# Altium integrated library National Semiconductor ADC.IntLib: 538 symbols (part 18 of 19)
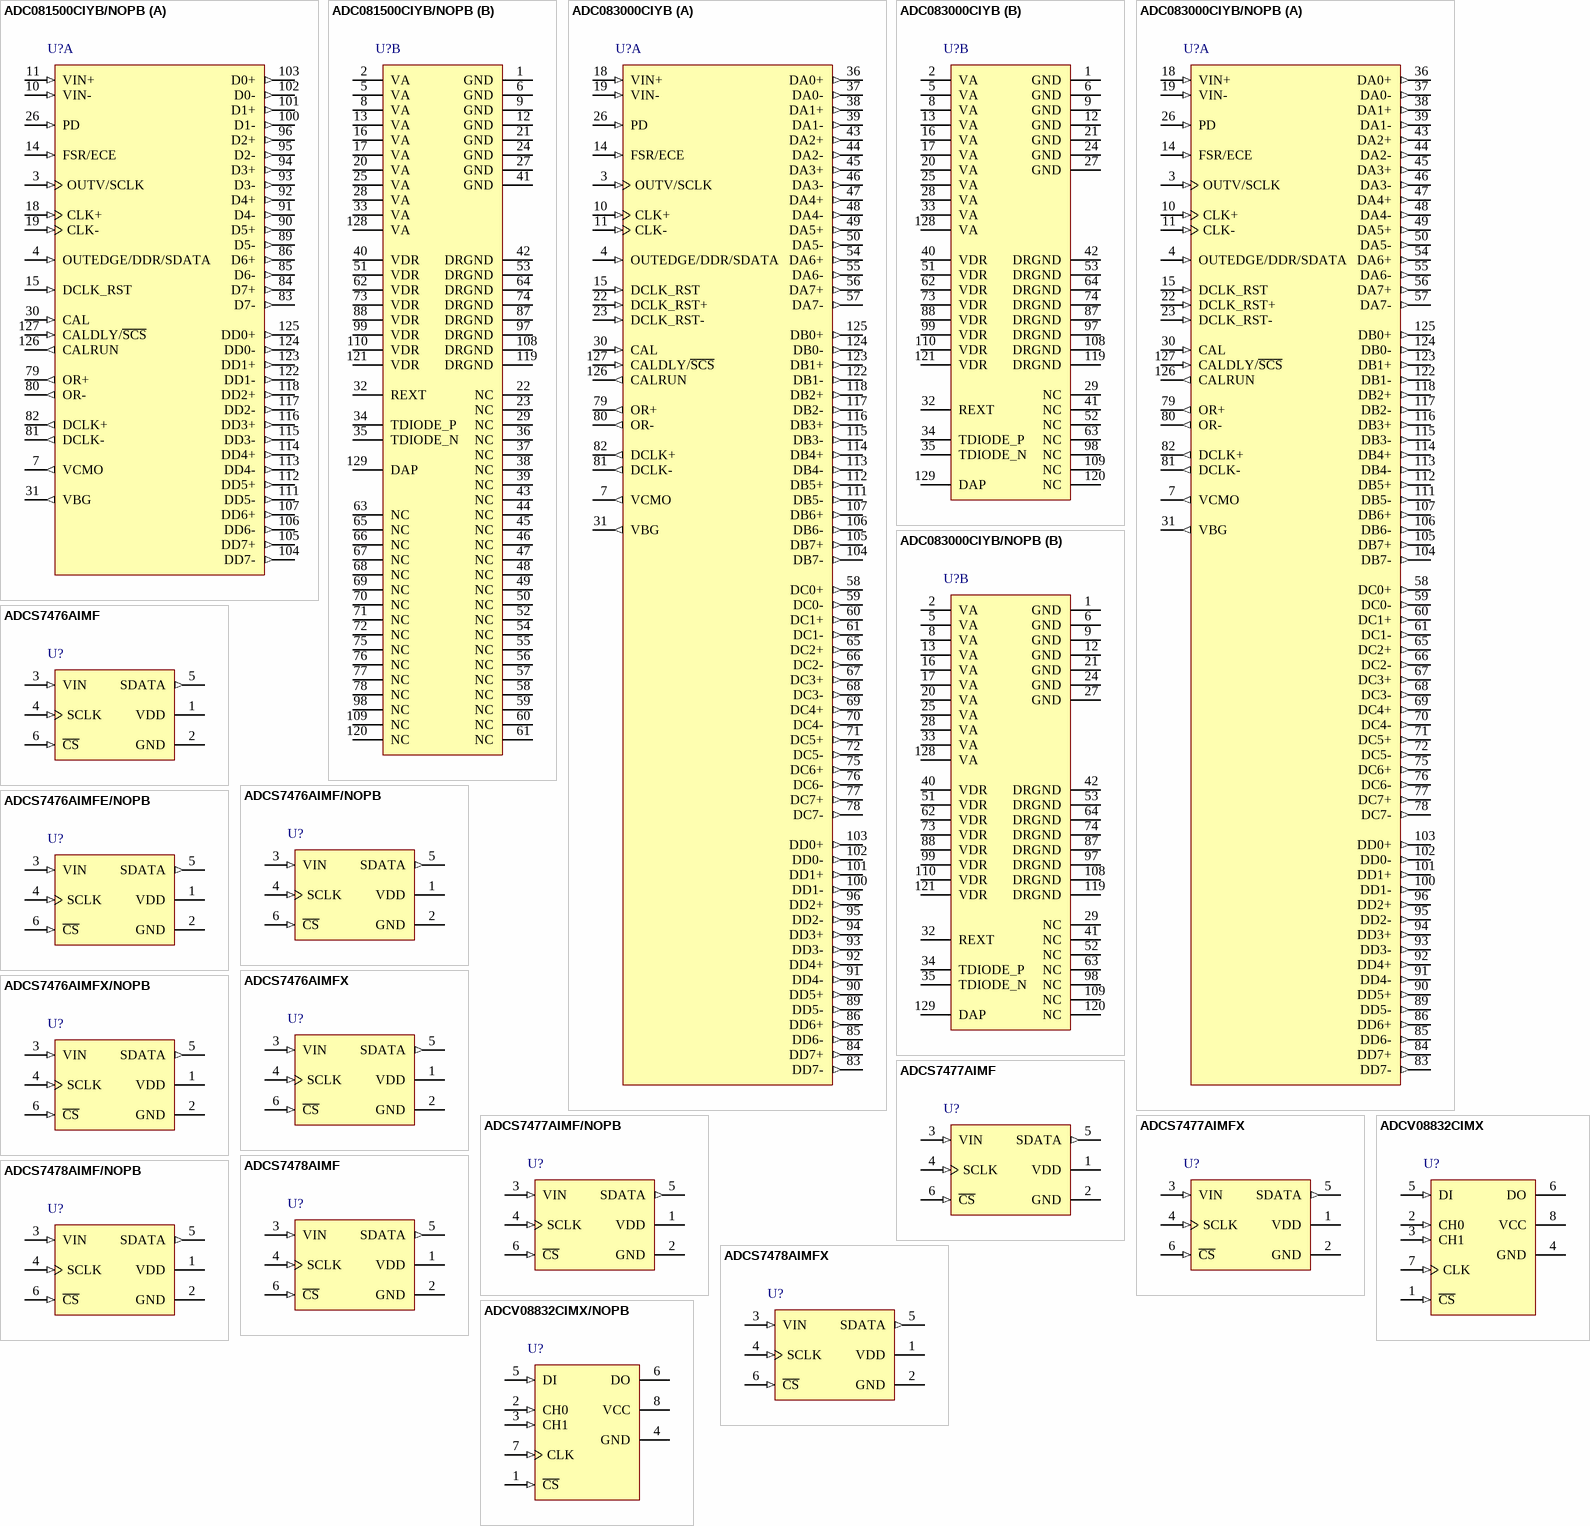
[diagram p62: symbols ADC081500CIYB/NOPB to ADCV08832CIMX/NOPB]

## ADC083000CIYB/NOPB
designator U?
8-Bit, 3 GSPS, High Performance, Low Power A/D Converter, 128-pin LQFP-EP, Pb-Free; PartNumber: ADC083000CIYB/NOPB; Manufacturer: National Semiconductor; PackageTopMarking: NSUZXYYTTE#*ADC083000CIYB; PowerWise: Y; CompType: ADC IC; DatasheetVersion: Jul-2009; PackageVersion: revB, Aug-2006; PackageReference: VNX128A; PackageDescription: LQFP, 20 x 20 x 1.4mm, 128 Lead, 0.5mm Pitch, Exposed Pad; RoHS: Y; PinCount: 128; Code_JEDEC: MS-026-BFB; ComponentLink1Description: ADC083000 Datasheet; ComponentLink1URL: http://www.national.com/ds/AD/ADC083000.pdf; ComponentLink2Description: ADC083000 Web Page; ComponentLink2URL: http://www.national.com/pf/AD/ADC083000.html; ComponentLink3Description: VNX128A Package Page; ComponentLink3URL: http://www.national.com/packaging/folders/vnx128a.html
footprint VNX128A_N (Thin QFP, 128-Leads, Body 20x20mm, Pitch 0.5mm, Exposed Pad, IPC Medium Density)
footprint VNX128A_L (Thin QFP, 128-Leads, Body 20x20mm, Pitch 0.5mm, Exposed Pad, IPC High Density)
footprint VNX128A_M (Thin QFP, 128-Leads, Body 20x20mm, Pitch 0.5mm, Exposed Pad, IPC Low Density)
part A pins: 3 OUTV/SCLK (in), 4 OUTEDGE/DDR/SDATA (in), 7 VCMO (out), 10 CLK+ (in), 11 CLK- (in), 14 FSR/ECE (in), 15 DCLK_RST (in), 18 VIN+ (in), 19 VIN- (in), 22 DCLK_RST+ (in), 23 DCLK_RST- (in), 26 PD (in), 30 CAL (in), 31 VBG (out), 36 DA0+ (out), 37 DA0- (out), 38 DA1+ (out), 39 DA1- (out), 43 DA2+ (out), 44 DA2- (out), 45 DA3+ (out), 46 DA3- (out), 47 DA4+ (out), 48 DA4- (out), 49 DA5+ (out), 50 DA5- (out), 54 DA6+ (out), 55 DA6- (out), 56 DA7+ (out), 57 DA7- (out), 58 DC0+ (out), 59 DC0- (out), 60 DC1+ (out), 61 DC1- (out), 65 DC2+ (out), 66 DC2- (out), 67 DC3+ (out), 68 DC3- (out), 69 DC4+ (out), 70 DC4- (out), 71 DC5+ (out), 72 DC5- (out), 75 DC6+ (out), 76 DC6- (out), 77 DC7+ (out), 78 DC7- (out), 79 OR+ (out), 80 OR- (out), 81 DCLK- (out), 82 DCLK+ (out), 83 DD7- (out), 84 DD7+ (out), 85 DD6- (out), 86 DD6+ (out), 89 DD5- (out), 90 DD5+ (out), 91 DD4- (out), 92 DD4+ (out), 93 DD3- (out), 94 DD3+ (out), 95 DD2- (out), 96 DD2+ (out), 100 DD1- (out), 101 DD1+ (out), 102 DD0- (out), 103 DD0+ (out), 104 DB7- (out), 105 DB7+ (out), 106 DB6- (out), 107 DB6+ (out), 111 DB5- (out), 112 DB5+ (out), 113 DB4- (out), 114 DB4+ (out), 115 DB3- (out), 116 DB3+ (out), 117 DB2- (out), 118 DB2+ (out), 122 DB1- (out), 123 DB1+ (out), 124 DB0- (out), 125 DB0+ (out), 126 CALRUN (out), 127 CALDLY/~{SCS} (in)
part B pins: 1 GND (power), 2 VA (power), 5 VA (power), 6 GND (power), 8 VA (power), 9 GND (power), 12 GND (power), 13 VA (power), 16 VA (power), 17 VA (power), 20 VA (power), 21 GND (power), 24 GND (power), 25 VA (power), 27 GND (power), 28 VA (power), 29 NC, 32 REXT, 33 VA (power), 34 TDIODE_P, 35 TDIODE_N, 40 VDR (power), 41 NC, 42 DRGND (power), 51 VDR (power), 52 NC, 53 DRGND (power), 62 VDR (power), 63 NC, 64 DRGND (power), 73 VDR (power), 74 DRGND (power), 87 DRGND (power), 88 VDR (power), 97 DRGND (power), 98 NC, 99 VDR (power), 108 DRGND (power), 109 NC, 110 VDR (power), 119 DRGND (power), 120 NC, 121 VDR (power), 128 VA (power), 129 DAP (power)

## ADCS7476AIMF
designator U?
1MSPS, 12-/10-/8-Bit A/D Converters, 6-pin SOT-23; PartNumber: ADCS7476AIMF; Manufacturer: National Semiconductor; PackageTopMarking: X01A*XTT; PowerWise: N; CompType: ADC IC; High-Reliability: Y; DatasheetVersion: Feb-2010; PackageVersion: revC, Sep-2005; PackageReference: MF06A; PackageDescription: Molded SOT-23, .115 x .063 x .040in Body, 6 Lead, .0375in in Pitch; RoHS: N; PinCount: 6; Code_JEDEC: MO-178-AB; Code_IPC: SOT26A-6; ComponentLink1Description: ADCS7476 Datasheet; ComponentLink1URL: http://www.national.com/ds/AD/ADCS7476.pdf; ComponentLink2Description: ADCS7476 Web Page; ComponentLink2URL: http://www.national.com/pf/AD/ADCS7476.html; ComponentLink3Description: MF06A Package Page; ComponentLink3URL: http://www.national.com/packaging/folders/mf06a.html
footprint MF06A_N (SOT23, 6-Leads, Body 2.9x1.6mm, Pitch 0.95mm, Lead Span 2.8mm, IPC Medium Density)
footprint MF06A_L (SOT23, 6-Leads, Body 2.9x1.6mm, Pitch 0.95mm, Lead Span 2.8mm, IPC High Density)
footprint MF06A_M (SOT23, 6-Leads, Body 2.9x1.6mm, Pitch 0.95mm, Lead Span 2.8mm, IPC Low Density)
pins: 1 VDD (power), 2 GND (power), 3 VIN (in), 4 SCLK (in), 5 SDATA (out), 6 ~{CS} (in)

## ADCS7476AIMF/NOPB
designator U?
1MSPS, 12-/10-/8-Bit A/D Converters in & LLP, 6-pin SOT-23, Pb-Free; PartNumber: ADCS7476AIMF/NOPB; Manufacturer: National Semiconductor; PackageTopMarking: X01A*XTT; PowerWise: N; CompType: ADC IC; High-Reliability: Y; DatasheetVersion: Feb-2010; PackageVersion: revC, Sep-2005; PackageReference: MF06A; PackageDescription: Molded SOT-23, .115 x .063 x .040in Body, 6 Lead, .0375in in Pitch; RoHS: Y; PinCount: 6; Code_JEDEC: MO-178-AB; Code_IPC: SOT26A-6; ComponentLink1Description: ADCS7476 Datasheet; ComponentLink1URL: http://www.national.com/ds/AD/ADCS7476.pdf; ComponentLink2Description: ADCS7476 Web Page; ComponentLink2URL: http://www.national.com/pf/AD/ADCS7476.html; ComponentLink3Description: MF06A Package Page; ComponentLink3URL: http://www.national.com/packaging/folders/mf06a.html
footprint MF06A_N (SOT23, 6-Leads, Body 2.9x1.6mm, Pitch 0.95mm, Lead Span 2.8mm, IPC Medium Density)
footprint MF06A_L (SOT23, 6-Leads, Body 2.9x1.6mm, Pitch 0.95mm, Lead Span 2.8mm, IPC High Density)
footprint MF06A_M (SOT23, 6-Leads, Body 2.9x1.6mm, Pitch 0.95mm, Lead Span 2.8mm, IPC Low Density)
pins: 1 VDD (power), 2 GND (power), 3 VIN (in), 4 SCLK (in), 5 SDATA (out), 6 ~{CS} (in)

## ADCS7476AIMFE/NOPB
designator U?
1MSPS, 12-/10-/8-Bit A/D Converters in & LLP, 6-pin SOT-23, Pb-Free; PartNumber: ADCS7476AIMFE/NOPB; Manufacturer: National Semiconductor; PackageTopMarking: X01A*XTT; PowerWise: N; CompType: ADC IC; High-Reliability: Y; DatasheetVersion: Feb-2010; PackageVersion: revC, Sep-2005; PackageReference: MF06A; PackageDescription: Molded SOT-23, .115 x .063 x .040in Body, 6 Lead, .0375in in Pitch; RoHS: Y; PinCount: 6; Code_JEDEC: MO-178-AB; Code_IPC: SOT26A-6; ComponentLink1Description: ADCS7476 Datasheet; ComponentLink1URL: http://www.national.com/ds/AD/ADCS7476.pdf; ComponentLink2Description: ADCS7476 Web Page; ComponentLink2URL: http://www.national.com/pf/AD/ADCS7476.html; ComponentLink3Description: MF06A Package Page; ComponentLink3URL: http://www.national.com/packaging/folders/mf06a.html
footprint MF06A_N (SOT23, 6-Leads, Body 2.9x1.6mm, Pitch 0.95mm, Lead Span 2.8mm, IPC Medium Density)
footprint MF06A_L (SOT23, 6-Leads, Body 2.9x1.6mm, Pitch 0.95mm, Lead Span 2.8mm, IPC High Density)
footprint MF06A_M (SOT23, 6-Leads, Body 2.9x1.6mm, Pitch 0.95mm, Lead Span 2.8mm, IPC Low Density)
pins: 1 VDD (power), 2 GND (power), 3 VIN (in), 4 SCLK (in), 5 SDATA (out), 6 ~{CS} (in)

## ADCS7476AIMFX
designator U?
1MSPS, 12-/10-/8-Bit A/D Converters in & LLP, 6-pin SOT-23; PartNumber: ADCS7476AIMFX; Manufacturer: National Semiconductor; PackageTopMarking: X01A*XTT; PowerWise: N; CompType: ADC IC; High-Reliability: Y; DatasheetVersion: Feb-2010; PackageVersion: revC, Sep-2005; PackageReference: MF06A; PackageDescription: Molded SOT-23, .115 x .063 x .040in Body, 6 Lead, .0375in in Pitch; RoHS: N; PinCount: 6; Code_JEDEC: MO-178-AB; Code_IPC: SOT26A-6; ComponentLink1Description: ADCS7476 Datasheet; ComponentLink1URL: http://www.national.com/ds/AD/ADCS7476.pdf; ComponentLink2Description: ADCS7476 Web Page; ComponentLink2URL: http://www.national.com/pf/AD/ADCS7476.html; ComponentLink3Description: MF06A Package Page; ComponentLink3URL: http://www.national.com/packaging/folders/mf06a.html
footprint MF06A_N (SOT23, 6-Leads, Body 2.9x1.6mm, Pitch 0.95mm, Lead Span 2.8mm, IPC Medium Density)
footprint MF06A_L (SOT23, 6-Leads, Body 2.9x1.6mm, Pitch 0.95mm, Lead Span 2.8mm, IPC High Density)
footprint MF06A_M (SOT23, 6-Leads, Body 2.9x1.6mm, Pitch 0.95mm, Lead Span 2.8mm, IPC Low Density)
pins: 1 VDD (power), 2 GND (power), 3 VIN (in), 4 SCLK (in), 5 SDATA (out), 6 ~{CS} (in)

## ADCS7476AIMFX/NOPB
designator U?
1MSPS, 12-/10-/8-Bit A/D Converters in & LLP, 6-pin SOT-23, Pb-Free; PartNumber: ADCS7476AIMFX/NOPB; Manufacturer: National Semiconductor; PackageTopMarking: X01A*XTT; PowerWise: N; CompType: ADC IC; High-Reliability: Y; DatasheetVersion: Feb-2010; PackageVersion: revC, Sep-2005; PackageReference: MF06A; PackageDescription: Molded SOT-23, .115 x .063 x .040in Body, 6 Lead, .0375in in Pitch; RoHS: Y; PinCount: 6; Code_JEDEC: MO-178-AB; Code_IPC: SOT26A-6; ComponentLink1Description: ADCS7476 Datasheet; ComponentLink1URL: http://www.national.com/ds/AD/ADCS7476.pdf; ComponentLink2Description: ADCS7476 Web Page; ComponentLink2URL: http://www.national.com/pf/AD/ADCS7476.html; ComponentLink3Description: MF06A Package Page; ComponentLink3URL: http://www.national.com/packaging/folders/mf06a.html
footprint MF06A_N (SOT23, 6-Leads, Body 2.9x1.6mm, Pitch 0.95mm, Lead Span 2.8mm, IPC Medium Density)
footprint MF06A_L (SOT23, 6-Leads, Body 2.9x1.6mm, Pitch 0.95mm, Lead Span 2.8mm, IPC High Density)
footprint MF06A_M (SOT23, 6-Leads, Body 2.9x1.6mm, Pitch 0.95mm, Lead Span 2.8mm, IPC Low Density)
pins: 1 VDD (power), 2 GND (power), 3 VIN (in), 4 SCLK (in), 5 SDATA (out), 6 ~{CS} (in)

## ADCS7477AIMF
designator U?
1MSPS, 12-/10-/8-Bit A/D Converters, 6-pin SOT-23; PartNumber: ADCS7477AIMF; Manufacturer: National Semiconductor; PackageTopMarking: X02A*XTT; PowerWise: N; CompType: ADC IC; High-Reliability: Y; DatasheetVersion: May-2003; PackageVersion: revC, Sep-2005; PackageReference: MF06A; PackageDescription: Molded SOT-23, .115 x .063 x .040in Body, 6 Lead, .0375in in Pitch; RoHS: N; PinCount: 6; Code_JEDEC: MO-178-AB; Code_IPC: SOT26A-6; ComponentLink1Description: ADCS7477 Datasheet; ComponentLink1URL: http://www.national.com/ds/AD/ADCS7477.pdf; ComponentLink2Description: ADCS7477 Web Page; ComponentLink2URL: http://www.national.com/pf/AD/ADCS7477.html; ComponentLink3Description: MF06A Package Page; ComponentLink3URL: http://www.national.com/packaging/folders/mf06a.html
footprint MF06A_N (SOT23, 6-Leads, Body 2.9x1.6mm, Pitch 0.95mm, Lead Span 2.8mm, IPC Medium Density)
footprint MF06A_L (SOT23, 6-Leads, Body 2.9x1.6mm, Pitch 0.95mm, Lead Span 2.8mm, IPC High Density)
footprint MF06A_M (SOT23, 6-Leads, Body 2.9x1.6mm, Pitch 0.95mm, Lead Span 2.8mm, IPC Low Density)
pins: 1 VDD (power), 2 GND (power), 3 VIN (in), 4 SCLK (in), 5 SDATA (out), 6 ~{CS} (in)

## ADCS7477AIMF/NOPB
designator U?
1MSPS, 12-/10-/8-Bit A/D Converters in & LLP, 6-pin SOT-23, Pb-Free; PartNumber: ADCS7477AIMF/NOPB; Manufacturer: National Semiconductor; PackageTopMarking: X02A*XTT; PowerWise: N; CompType: ADC IC; High-Reliability: Y; DatasheetVersion: May-2003; PackageVersion: revC, Sep-2005; PackageReference: MF06A; PackageDescription: Molded SOT-23, .115 x .063 x .040in Body, 6 Lead, .0375in in Pitch; RoHS: Y; PinCount: 6; Code_JEDEC: MO-178-AB; Code_IPC: SOT26A-6; ComponentLink1Description: ADCS7477 Datasheet; ComponentLink1URL: http://www.national.com/ds/AD/ADCS7477.pdf; ComponentLink2Description: ADCS7477 Web Page; ComponentLink2URL: http://www.national.com/pf/AD/ADCS7477.html; ComponentLink3Description: MF06A Package Page; ComponentLink3URL: http://www.national.com/packaging/folders/mf06a.html
footprint MF06A_N (SOT23, 6-Leads, Body 2.9x1.6mm, Pitch 0.95mm, Lead Span 2.8mm, IPC Medium Density)
footprint MF06A_L (SOT23, 6-Leads, Body 2.9x1.6mm, Pitch 0.95mm, Lead Span 2.8mm, IPC High Density)
footprint MF06A_M (SOT23, 6-Leads, Body 2.9x1.6mm, Pitch 0.95mm, Lead Span 2.8mm, IPC Low Density)
pins: 1 VDD (power), 2 GND (power), 3 VIN (in), 4 SCLK (in), 5 SDATA (out), 6 ~{CS} (in)

## ADCS7477AIMFX
designator U?
1MSPS, 12-/10-/8-Bit A/D Converters in & LLP, 6-pin SOT-23; PartNumber: ADCS7477AIMFX; Manufacturer: National Semiconductor; PackageTopMarking: X02A*XTT; PowerWise: N; CompType: ADC IC; High-Reliability: Y; DatasheetVersion: May-2003; PackageVersion: revC, Sep-2005; PackageReference: MF06A; PackageDescription: Molded SOT-23, .115 x .063 x .040in Body, 6 Lead, .0375in in Pitch; RoHS: N; PinCount: 6; Code_JEDEC: MO-178-AB; Code_IPC: SOT26A-6; ComponentLink1Description: ADCS7477 Datasheet; ComponentLink1URL: http://www.national.com/ds/AD/ADCS7477.pdf; ComponentLink2Description: ADCS7477 Web Page; ComponentLink2URL: http://www.national.com/pf/AD/ADCS7477.html; ComponentLink3Description: MF06A Package Page; ComponentLink3URL: http://www.national.com/packaging/folders/mf06a.html
footprint MF06A_N (SOT23, 6-Leads, Body 2.9x1.6mm, Pitch 0.95mm, Lead Span 2.8mm, IPC Medium Density)
footprint MF06A_L (SOT23, 6-Leads, Body 2.9x1.6mm, Pitch 0.95mm, Lead Span 2.8mm, IPC High Density)
footprint MF06A_M (SOT23, 6-Leads, Body 2.9x1.6mm, Pitch 0.95mm, Lead Span 2.8mm, IPC Low Density)
pins: 1 VDD (power), 2 GND (power), 3 VIN (in), 4 SCLK (in), 5 SDATA (out), 6 ~{CS} (in)

## ADCS7478AIMF
designator U?
1MSPS, 12-/10-/8-Bit A/D Converters, 6-pin SOT-23; PartNumber: ADCS7478AIMF; Manufacturer: National Semiconductor; PackageTopMarking: X03A*XTT; PowerWise: N; CompType: ADC IC; High-Reliability: Y; DatasheetVersion: May-2003; PackageVersion: revC, Sep-2005; PackageReference: MF06A; PackageDescription: Molded SOT-23, .115 x .063 x .040in Body, 6 Lead, .0375in in Pitch; RoHS: N; PinCount: 6; Code_JEDEC: MO-178-AB; Code_IPC: SOT26A-6; ComponentLink1Description: ADCS7478 Datasheet; ComponentLink1URL: http://www.national.com/ds/AD/ADCS7478.pdf; ComponentLink2Description: ADCS7478 Web Page; ComponentLink2URL: http://www.national.com/pf/AD/ADCS7478.html; ComponentLink3Description: MF06A Package Page; ComponentLink3URL: http://www.national.com/packaging/folders/mf06a.html
footprint MF06A_N (SOT23, 6-Leads, Body 2.9x1.6mm, Pitch 0.95mm, Lead Span 2.8mm, IPC Medium Density)
footprint MF06A_L (SOT23, 6-Leads, Body 2.9x1.6mm, Pitch 0.95mm, Lead Span 2.8mm, IPC High Density)
footprint MF06A_M (SOT23, 6-Leads, Body 2.9x1.6mm, Pitch 0.95mm, Lead Span 2.8mm, IPC Low Density)
pins: 1 VDD (power), 2 GND (power), 3 VIN (in), 4 SCLK (in), 5 SDATA (out), 6 ~{CS} (in)

## ADCS7478AIMF/NOPB
designator U?
1MSPS, 12-/10-/8-Bit A/D Converters in & LLP, 6-pin SOT-23, Pb-Free; PartNumber: ADCS7478AIMF/NOPB; Manufacturer: National Semiconductor; PackageTopMarking: X03A*XTT; PowerWise: N; CompType: ADC IC; High-Reliability: Y; DatasheetVersion: May-2003; PackageVersion: revC, Sep-2005; PackageReference: MF06A; PackageDescription: Molded SOT-23, .115 x .063 x .040in Body, 6 Lead, .0375in in Pitch; RoHS: Y; PinCount: 6; Code_JEDEC: MO-178-AB; Code_IPC: SOT26A-6; ComponentLink1Description: ADCS7478 Datasheet; ComponentLink1URL: http://www.national.com/ds/AD/ADCS7478.pdf; ComponentLink2Description: ADCS7478 Web Page; ComponentLink2URL: http://www.national.com/pf/AD/ADCS7478.html; ComponentLink3Description: MF06A Package Page; ComponentLink3URL: http://www.national.com/packaging/folders/mf06a.html
footprint MF06A_N (SOT23, 6-Leads, Body 2.9x1.6mm, Pitch 0.95mm, Lead Span 2.8mm, IPC Medium Density)
footprint MF06A_L (SOT23, 6-Leads, Body 2.9x1.6mm, Pitch 0.95mm, Lead Span 2.8mm, IPC High Density)
footprint MF06A_M (SOT23, 6-Leads, Body 2.9x1.6mm, Pitch 0.95mm, Lead Span 2.8mm, IPC Low Density)
pins: 1 VDD (power), 2 GND (power), 3 VIN (in), 4 SCLK (in), 5 SDATA (out), 6 ~{CS} (in)

## ADCS7478AIMFX
designator U?
1MSPS, 12-/10-/8-Bit A/D Converters in & LLP, 6-pin SOT-23; PartNumber: ADCS7478AIMFX; Manufacturer: National Semiconductor; PackageTopMarking: X03A*XTT; PowerWise: N; CompType: ADC IC; High-Reliability: Y; DatasheetVersion: May-2003; PackageVersion: revC, Sep-2005; PackageReference: MF06A; PackageDescription: Molded SOT-23, .115 x .063 x .040in Body, 6 Lead, .0375in in Pitch; RoHS: N; PinCount: 6; Code_JEDEC: MO-178-AB; Code_IPC: SOT26A-6; ComponentLink1Description: ADCS7478 Datasheet; ComponentLink1URL: http://www.national.com/ds/AD/ADCS7478.pdf; ComponentLink2Description: ADCS7478 Web Page; ComponentLink2URL: http://www.national.com/pf/AD/ADCS7478.html; ComponentLink3Description: MF06A Package Page; ComponentLink3URL: http://www.national.com/packaging/folders/mf06a.html
footprint MF06A_N (SOT23, 6-Leads, Body 2.9x1.6mm, Pitch 0.95mm, Lead Span 2.8mm, IPC Medium Density)
footprint MF06A_L (SOT23, 6-Leads, Body 2.9x1.6mm, Pitch 0.95mm, Lead Span 2.8mm, IPC High Density)
footprint MF06A_M (SOT23, 6-Leads, Body 2.9x1.6mm, Pitch 0.95mm, Lead Span 2.8mm, IPC Low Density)
pins: 1 VDD (power), 2 GND (power), 3 VIN (in), 4 SCLK (in), 5 SDATA (out), 6 ~{CS} (in)

## ADCV08832CIMX
designator U?
Low Voltage, 8-Bit Serial I/O CMOS A/D Converter With Sample/Hold, 8-pin Narrow SOIC; PartNumber: ADCV08832CIMX; Manufacturer: National Semiconductor; PackageTopMarking: NSZXTT*ADCV0*8832I; PowerWise: N; CompType: ADC IC; High-Reliability: Y; DatasheetVersion: Jan-2001; PackageVersion: revM, May-2009; PackageReference: M08A; PackageDescription: SOIC Narrow, 4.9 x 3.9 x 1.45mm, 8 Lead, 1.27mm Pitch; RoHS: N; PinCount: 8; Code_JEDEC: MS-012-AA; Code_IPC: SOIC127P600-8; ComponentLink1Description: ADCV08832 Datasheet; ComponentLink1URL: http://www.national.com/ds/AD/ADCV08832.pdf; ComponentLink2Description: ADCV08832 Web Page; ComponentLink2URL: http://www.national.com/pf/AD/ADCV08832.html; ComponentLink3Description: M08A Package Page; ComponentLink3URL: http://www.national.com/packaging/folders/m08a.html
footprint M08A_N (SOIC, 8-Leads, Body 4.9x3.9mm, Pitch 1.27mm, IPC Medium Density)
footprint M08A_L (SOIC, 8-Leads, Body 4.9x3.9mm, Pitch 1.27mm, IPC High Density)
footprint M08A_M (SOIC, 8-Leads, Body 4.9x3.9mm, Pitch 1.27mm, IPC Low Density)
pins: 1 ~{CS} (in), 2 CH0 (in), 3 CH1 (in), 4 GND (power), 5 DI (in), 6 DO (hiz), 7 CLK (in), 8 VCC (power)

## ADCV08832CIMX/NOPB
designator U?
Low Voltage, 8-Bit Serial I/O CMOS A/D Converter With Sample/Hold, 8-pin Narrow SOIC, Pb-Free; PartNumber: ADCV08832CIMX/NOPB; Manufacturer: National Semiconductor; PackageTopMarking: NSZXTT*ADCV0*8832I; PowerWise: N; CompType: ADC IC; High-Reliability: Y; DatasheetVersion: Jan-2001; PackageVersion: revM, May-2009; PackageReference: M08A; PackageDescription: SOIC Narrow, 4.9 x 3.9 x 1.45mm, 8 Lead, 1.27mm Pitch; RoHS: Y; PinCount: 8; Code_JEDEC: MS-012-AA; Code_IPC: SOIC127P600-8; ComponentLink1Description: ADCV08832 Datasheet; ComponentLink1URL: http://www.national.com/ds/AD/ADCV08832.pdf; ComponentLink2Description: ADCV08832 Web Page; ComponentLink2URL: http://www.national.com/pf/AD/ADCV08832.html; ComponentLink3Description: M08A Package Page; ComponentLink3URL: http://www.national.com/packaging/folders/m08a.html
footprint M08A_N (SOIC, 8-Leads, Body 4.9x3.9mm, Pitch 1.27mm, IPC Medium Density)
footprint M08A_L (SOIC, 8-Leads, Body 4.9x3.9mm, Pitch 1.27mm, IPC High Density)
footprint M08A_M (SOIC, 8-Leads, Body 4.9x3.9mm, Pitch 1.27mm, IPC Low Density)
pins: 1 ~{CS} (in), 2 CH0 (in), 3 CH1 (in), 4 GND (power), 5 DI (in), 6 DO (hiz), 7 CLK (in), 8 VCC (power)

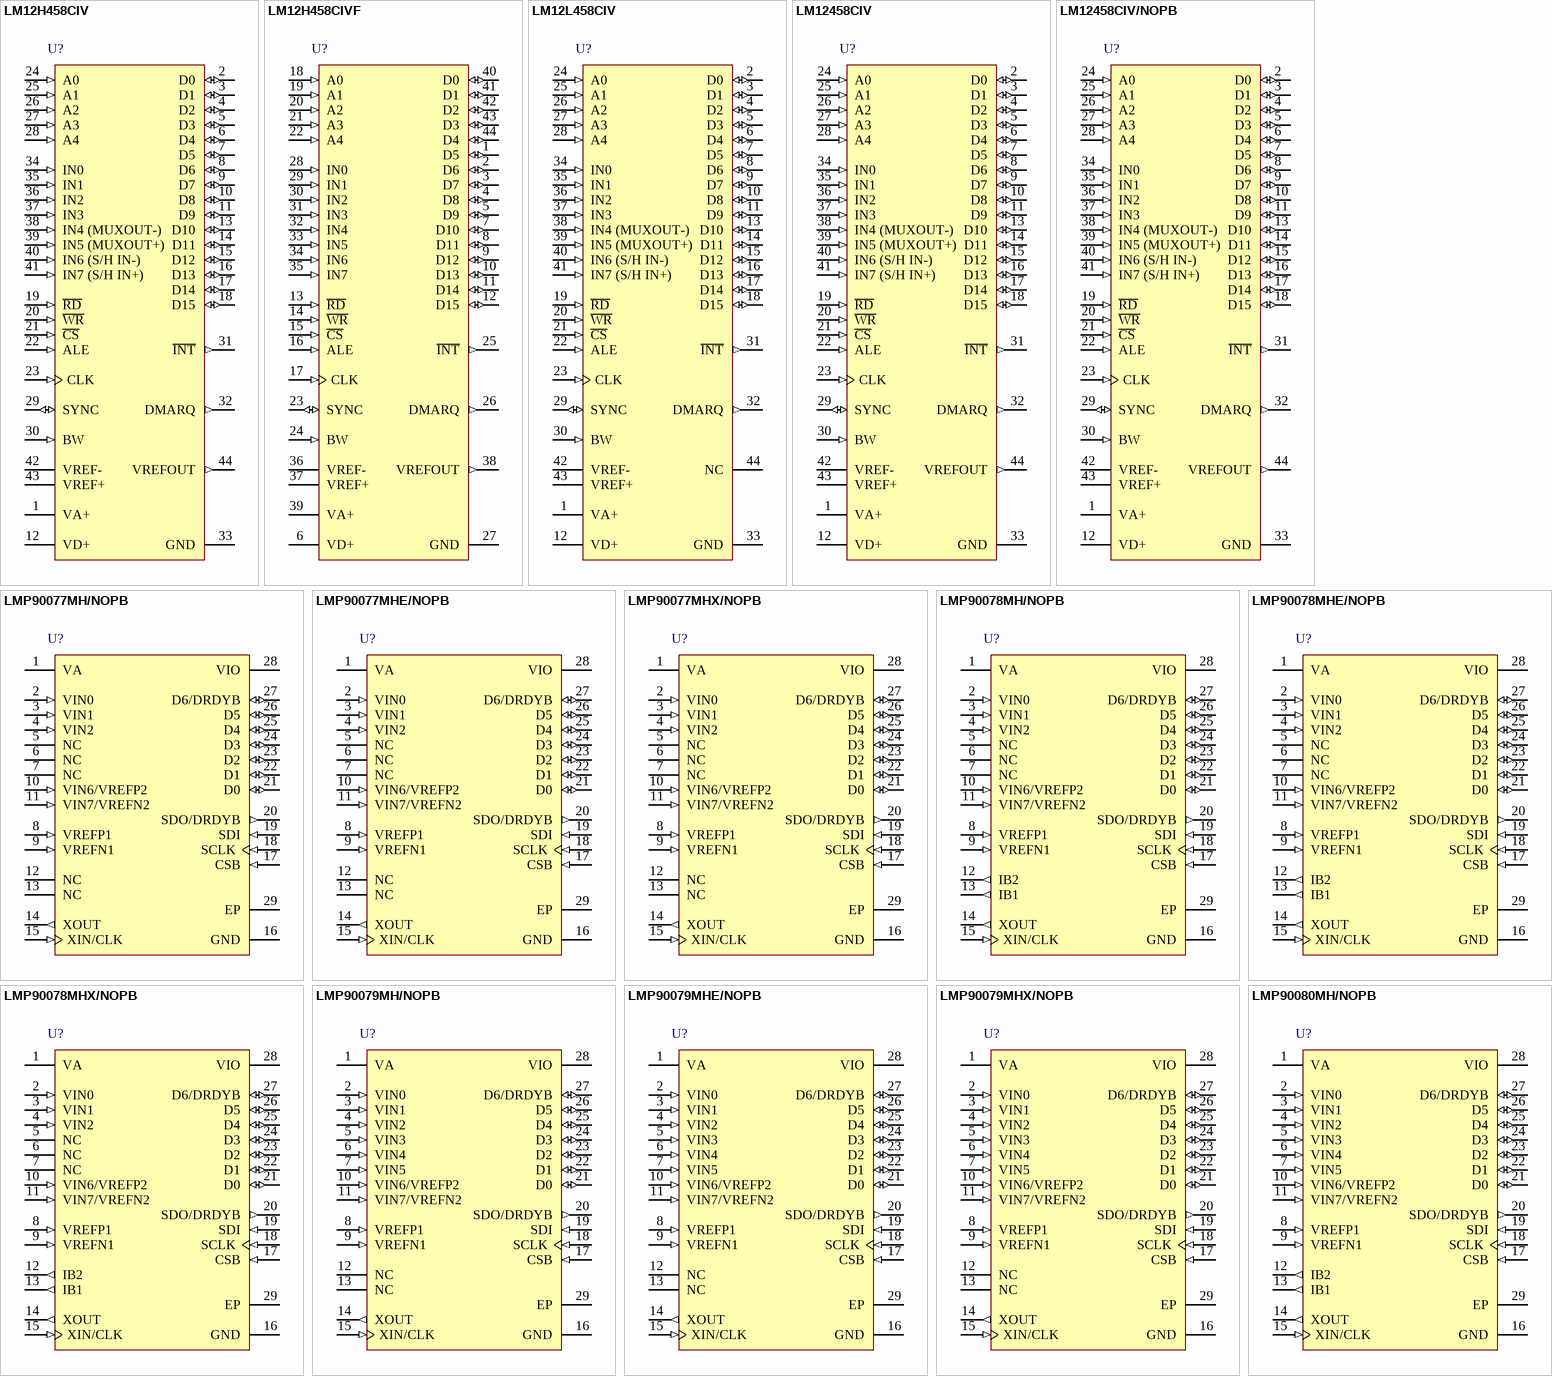
[diagram p44: symbols LM12H458CIV to LMP90080MH/NOPB]

## LM12H458CIV
designator U?
12-Bit Plus Sign Data Acquisition System with Self-Calibration, 44-pin PLCC; PartNumber: LM12H458CIV; Manufacturer: National Semiconductor; PackageTopMarking: NSUZXYYTTE#*LM12H458CIV; PowerWise: N; CompType: ADC IC; High-Reliability: Y; DatasheetVersion: Feb-2006; PackageVersion: revK, Dec-1993; PackageReference: V44A; PackageDescription: Plastic Chip Carrier, Sq, .050in Pitch, 44 Lead; RoHS: N; PinCount: 44; Code_IPC: PLCC-44; ComponentLink1Description: LM12H458 Datasheet; ComponentLink1URL: http://www.national.com/ds/LM/LM12H458.pdf; ComponentLink2Description: LM12H458 Web Page; ComponentLink2URL: http://www.national.com/pf/LM/LM12H458.html; ComponentLink3Description: V44A Package Page; ComponentLink3URL: http://www.national.com/packaging/folders/v44a.html
footprint V44A_N (Leaded Chip Carrier, 44-Leads, Body 16.6x16.6mm, Pitch 1.27mm, IPC Medium Density)
footprint V44A_L (Leaded Chip Carrier, 44-Leads, Body 16.6x16.6mm, Pitch 1.27mm, IPC High Density)
footprint V44A_M (Leaded Chip Carrier, 44-Leads, Body 16.6x16.6mm, Pitch 1.27mm, IPC Low Density)
pins: 1 VA+ (power), 2 D0 (io), 3 D1 (io), 4 D2 (io), 5 D3 (io), 6 D4 (io), 7 D5 (io), 8 D6 (io), 9 D7 (io), 10 D8 (io), 11 D9 (io), 12 VD+ (power), 13 D10 (io), 14 D11 (io), 15 D12 (io), 16 D13 (io), 17 D14 (io), 18 D15 (io), 19 ~{RD} (in), 20 ~{WR} (in), 21 ~{CS} (in), 22 ALE (in), 23 CLK (in), 24 A0 (in), 25 A1 (in), 26 A2 (in), 27 A3 (in), 28 A4 (in), 29 SYNC (io), 30 BW (in), 31 ~{INT} (out), 32 DMARQ (out), 33 GND (power), 34 IN0 (in), 35 IN1 (in), 36 IN2 (in), 37 IN3 (in), 38 IN4 (MUXOUT-) (in), 39 IN5 (MUXOUT+) (in), 40 IN6 (S/H IN-) (in), 41 IN7 (S/H IN+) (in), 42 VREF- (power), 43 VREF+ (power), 44 VREFOUT (out)

## LM12H458CIVF
designator U?
12-Bit Plus Sign Data Acquisition System with Self-Calibration, 44-pin PQFP; PartNumber: LM12H458CIVF; Manufacturer: National Semiconductor; PackageTopMarking: NSUZXYYTTE#*LM12H458*CIVF*DIE RUN# =; PowerWise: N; CompType: ADC IC; High-Reliability: Y; DatasheetVersion: Feb-2006; PackageVersion: revE, Feb-2003; PackageReference: VGZ44A; PackageDescription: PQFP, Jedec Metric, (S), 10 x 10 x 2.0mm Body, 44 Lead; RoHS: N; PinCount: 44; Code_JEDEC: MO-108-AA-1; Code_IPC: QFP80P1320X1320-44; ComponentLink1Description: LM12H458 Datasheet; ComponentLink1URL: http://www.national.com/ds/LM/LM12H458.pdf; ComponentLink2Description: LM12H458 Web Page; ComponentLink2URL: http://www.national.com/pf/LM/LM12H458.html; ComponentLink3Description: VGZ44A Package Page; ComponentLink3URL: http://www.national.com/packaging/folders/vgz44a.html
footprint VGZ44A_N (QFP, 44-Leads, Body 10x10mm, Pitch 0.8mm, IPC Medium Density)
footprint VGZ44A_L (QFP, 44-Leads, Body 10x10mm, Pitch 0.8mm, IPC High Density)
footprint VGZ44A_M (QFP, 44-Leads, Body 10x10mm, Pitch 0.8mm, IPC Low Density)
pins: 1 D5 (io), 2 D6 (io), 3 D7 (io), 4 D8 (io), 5 D9 (io), 6 VD+ (power), 7 D10 (io), 8 D11 (io), 9 D12 (io), 10 D13 (io), 11 D14 (io), 12 D15 (io), 13 ~{RD} (in), 14 ~{WR} (in), 15 ~{CS} (in), 16 ALE (in), 17 CLK (in), 18 A0 (in), 19 A1 (in), 20 A2 (in), 21 A3 (in), 22 A4 (in), 23 SYNC (io), 24 BW (in), 25 ~{INT} (out), 26 DMARQ (out), 27 GND (power), 28 IN0 (in), 29 IN1 (in), 30 IN2 (in), 31 IN3 (in), 32 IN4 (in), 33 IN5 (in), 34 IN6 (in), 35 IN7 (in), 36 VREF- (power), 37 VREF+ (power), 38 VREFOUT (out), 39 VA+ (power), 40 D0 (io), 41 D1 (io), 42 D2 (io), 43 D3 (io), 44 D4 (io)

## LM12L458CIV
designator U?
12-Bit Plus Sign Data Acquisition System with Self-Calibration, 44-pin PLCC; PartNumber: LM12L458CIV; Manufacturer: National Semiconductor; PackageTopMarking: NSUZXYYTTE#*LM12L458CIV; PowerWise: N; CompType: ADC IC; High-Reliability: Y; DatasheetVersion: Feb-2006; PackageVersion: revK, Dec-1993; PackageReference: V44A; PackageDescription: Plastic Chip Carrier, Sq, .050in Pitch, 44 Lead; RoHS: N; PinCount: 44; Code_IPC: PLCC-44; ComponentLink1Description: LM12L458 Datasheet; ComponentLink1URL: http://www.national.com/ds/LM/LM12L458.pdf; ComponentLink2Description: LM12L458 Web Page; ComponentLink2URL: http://www.national.com/pf/LM/LM12L458.html; ComponentLink3Description: V44A Package Page; ComponentLink3URL: http://www.national.com/packaging/folders/v44a.html
footprint V44A_N (Leaded Chip Carrier, 44-Leads, Body 16.6x16.6mm, Pitch 1.27mm, IPC Medium Density)
footprint V44A_L (Leaded Chip Carrier, 44-Leads, Body 16.6x16.6mm, Pitch 1.27mm, IPC High Density)
footprint V44A_M (Leaded Chip Carrier, 44-Leads, Body 16.6x16.6mm, Pitch 1.27mm, IPC Low Density)
pins: 1 VA+ (power), 2 D0 (io), 3 D1 (io), 4 D2 (io), 5 D3 (io), 6 D4 (io), 7 D5 (io), 8 D6 (io), 9 D7 (io), 10 D8 (io), 11 D9 (io), 12 VD+ (power), 13 D10 (io), 14 D11 (io), 15 D12 (io), 16 D13 (io), 17 D14 (io), 18 D15 (io), 19 ~{RD} (in), 20 ~{WR} (in), 21 ~{CS} (in), 22 ALE (in), 23 CLK (in), 24 A0 (in), 25 A1 (in), 26 A2 (in), 27 A3 (in), 28 A4 (in), 29 SYNC (io), 30 BW (in), 31 ~{INT} (out), 32 DMARQ (out), 33 GND (power), 34 IN0 (in), 35 IN1 (in), 36 IN2 (in), 37 IN3 (in), 38 IN4 (MUXOUT-) (in), 39 IN5 (MUXOUT+) (in), 40 IN6 (S/H IN-) (in), 41 IN7 (S/H IN+) (in), 42 VREF- (power), 43 VREF+ (power), 44 NC

## LM12458CIV
designator U?
12-Bit Plus Sign Data Acquisition System with Self-Calibration, 44-pin PLCC; PartNumber: LM12458CIV; Manufacturer: National Semiconductor; PackageTopMarking: NSUZXYYTTE#*LM12458CIV; PowerWise: N; CompType: ADC IC; High-Reliability: Y; DatasheetVersion: Feb-2006; PackageVersion: revK, Dec-1993; PackageReference: V44A; PackageDescription: Plastic Chip Carrier, Sq, .050in Pitch, 44 Lead; RoHS: N; PinCount: 44; Code_IPC: PLCC-44; ComponentLink1Description: LM12458 Datasheet; ComponentLink1URL: http://www.national.com/ds/LM/LM12458.pdf; ComponentLink2Description: LM12458 Web Page; ComponentLink2URL: http://www.national.com/pf/LM/LM12458.html; ComponentLink3Description: V44A Package Page; ComponentLink3URL: http://www.national.com/packaging/folders/v44a.html
footprint V44A_N (Leaded Chip Carrier, 44-Leads, Body 16.6x16.6mm, Pitch 1.27mm, IPC Medium Density)
footprint V44A_L (Leaded Chip Carrier, 44-Leads, Body 16.6x16.6mm, Pitch 1.27mm, IPC High Density)
footprint V44A_M (Leaded Chip Carrier, 44-Leads, Body 16.6x16.6mm, Pitch 1.27mm, IPC Low Density)
pins: 1 VA+ (power), 2 D0 (io), 3 D1 (io), 4 D2 (io), 5 D3 (io), 6 D4 (io), 7 D5 (io), 8 D6 (io), 9 D7 (io), 10 D8 (io), 11 D9 (io), 12 VD+ (power), 13 D10 (io), 14 D11 (io), 15 D12 (io), 16 D13 (io), 17 D14 (io), 18 D15 (io), 19 ~{RD} (in), 20 ~{WR} (in), 21 ~{CS} (in), 22 ALE (in), 23 CLK (in), 24 A0 (in), 25 A1 (in), 26 A2 (in), 27 A3 (in), 28 A4 (in), 29 SYNC (io), 30 BW (in), 31 ~{INT} (out), 32 DMARQ (out), 33 GND (power), 34 IN0 (in), 35 IN1 (in), 36 IN2 (in), 37 IN3 (in), 38 IN4 (MUXOUT-) (in), 39 IN5 (MUXOUT+) (in), 40 IN6 (S/H IN-) (in), 41 IN7 (S/H IN+) (in), 42 VREF- (power), 43 VREF+ (power), 44 VREFOUT (out)

## LM12458CIV/NOPB
designator U?
12-Bit Plus Sign Data Acquisition System with Self-Calibration, 44-pin PLCC, Pb-Free; PartNumber: LM12458CIV/NOPB; Manufacturer: National Semiconductor; PackageTopMarking: NSUZXYYTTE#*LM12458CIV; PowerWise: N; CompType: ADC IC; High-Reliability: Y; DatasheetVersion: Feb-2006; PackageVersion: revK, Dec-1993; PackageReference: V44A; PackageDescription: Plastic Chip Carrier, Sq, .050in Pitch, 44 Lead; RoHS: Y; PinCount: 44; Code_IPC: PLCC-44; ComponentLink1Description: LM12458 Datasheet; ComponentLink1URL: http://www.national.com/ds/LM/LM12458.pdf; ComponentLink2Description: LM12458 Web Page; ComponentLink2URL: http://www.national.com/pf/LM/LM12458.html; ComponentLink3Description: V44A Package Page; ComponentLink3URL: http://www.national.com/packaging/folders/v44a.html
footprint V44A_N (Leaded Chip Carrier, 44-Leads, Body 16.6x16.6mm, Pitch 1.27mm, IPC Medium Density)
footprint V44A_L (Leaded Chip Carrier, 44-Leads, Body 16.6x16.6mm, Pitch 1.27mm, IPC High Density)
footprint V44A_M (Leaded Chip Carrier, 44-Leads, Body 16.6x16.6mm, Pitch 1.27mm, IPC Low Density)
pins: 1 VA+ (power), 2 D0 (io), 3 D1 (io), 4 D2 (io), 5 D3 (io), 6 D4 (io), 7 D5 (io), 8 D6 (io), 9 D7 (io), 10 D8 (io), 11 D9 (io), 12 VD+ (power), 13 D10 (io), 14 D11 (io), 15 D12 (io), 16 D13 (io), 17 D14 (io), 18 D15 (io), 19 ~{RD} (in), 20 ~{WR} (in), 21 ~{CS} (in), 22 ALE (in), 23 CLK (in), 24 A0 (in), 25 A1 (in), 26 A2 (in), 27 A3 (in), 28 A4 (in), 29 SYNC (io), 30 BW (in), 31 ~{INT} (out), 32 DMARQ (out), 33 GND (power), 34 IN0 (in), 35 IN1 (in), 36 IN2 (in), 37 IN3 (in), 38 IN4 (MUXOUT-) (in), 39 IN5 (MUXOUT+) (in), 40 IN6 (S/H IN-) (in), 41 IN7 (S/H IN+) (in), 42 VREF- (power), 43 VREF+ (power), 44 VREFOUT (out)

## LMP90077MH/NOPB
designator U?
Multi-Channel, Low-Power 16-Bit Sensor AFE with True Continuous Background Calibration, 2-DIFF/4-SE inputs, 28-pin TSSOP-EP, 48 Rail; PartNumber: LMP90077MH/NOPB; Manufacturer: National Semiconductor; PackageTopMarking: NSUZXYTTE#*LMP90077*MH; PowerWise: N; CompType: ADC IC; DatasheetVersion: Aug-2011; PackageVersion: revD, Oct-2003; PackageReference: MXA28A; PackageDescription: Molded TSSOP, Jedec, 9.7 x 4.4 x 0.9mm Body, 28 Lead, 0.65mm Pitch, Exposed Pad; RoHS: Y; PinCount: 28; Code_JEDEC: MO-153-AET; ComponentLink1Description: LMP90077 Datasheet; ComponentLink1URL: http://www.national.com/ds/LM/LMP90077.pdf; ComponentLink2Description: LMP90077 Web Page; ComponentLink2URL: http://www.national.com/pf/LM/LMP90077.html; ComponentLink3Description: MXA28A Package Page; ComponentLink3URL: http://www.national.com/packaging/folders/mxa28a.html
footprint MXA28A_N (TSOP, 28-Leads, Body 9.7x4.4mm, Pitch 0.65mm, Thermal Pad, IPC Medium Density)
footprint MXA28A_L (TSOP, 28-Leads, Body 9.7x4.4mm, Pitch 0.65mm, Thermal Pad, IPC High Density)
footprint MXA28A_M (TSOP, 28-Leads, Body 9.7x4.4mm, Pitch 0.65mm, Thermal Pad, IPC Low Density)
pins: 1 VA (power), 2 VIN0 (in), 3 VIN1 (in), 4 VIN2 (in), 5 NC, 6 NC, 7 NC, 8 VREFP1 (in), 9 VREFN1 (in), 10 VIN6/VREFP2 (in), 11 VIN7/VREFN2 (in), 12 NC, 13 NC, 14 XOUT (out), 15 XIN/CLK (in), 16 GND (power), 17 CSB (in), 18 SCLK (in), 19 SDI (in), 20 SDO/DRDYB (out), 21 D0 (io), 22 D1 (io), 23 D2 (io), 24 D3 (io), 25 D4 (io), 26 D5 (io), 27 D6/DRDYB (io), 28 VIO (power), 29 EP (power)

## LMP90077MHE/NOPB
designator U?
Multi-Channel, Low-Power 16-Bit Sensor AFE with True Continuous Background Calibration, 2-DIFF/4-SE inputs, 28-pin TSSOP-EP, 250 Reel; PartNumber: LMP90077MHE/NOPB; Manufacturer: National Semiconductor; PackageTopMarking: NSUZXYTTE#*LMP90077*MH; PowerWise: N; CompType: ADC IC; DatasheetVersion: Aug-2011; PackageVersion: revD, Oct-2003; PackageReference: MXA28A; PackageDescription: Molded TSSOP, Jedec, 9.7 x 4.4 x 0.9mm Body, 28 Lead, 0.65mm Pitch, Exposed Pad; RoHS: Y; PinCount: 28; Code_JEDEC: MO-153-AET; ComponentLink1Description: LMP90077 Datasheet; ComponentLink1URL: http://www.national.com/ds/LM/LMP90077.pdf; ComponentLink2Description: LMP90077 Web Page; ComponentLink2URL: http://www.national.com/pf/LM/LMP90077.html; ComponentLink3Description: MXA28A Package Page; ComponentLink3URL: http://www.national.com/packaging/folders/mxa28a.html
footprint MXA28A_N (TSOP, 28-Leads, Body 9.7x4.4mm, Pitch 0.65mm, Thermal Pad, IPC Medium Density)
footprint MXA28A_L (TSOP, 28-Leads, Body 9.7x4.4mm, Pitch 0.65mm, Thermal Pad, IPC High Density)
footprint MXA28A_M (TSOP, 28-Leads, Body 9.7x4.4mm, Pitch 0.65mm, Thermal Pad, IPC Low Density)
pins: 1 VA (power), 2 VIN0 (in), 3 VIN1 (in), 4 VIN2 (in), 5 NC, 6 NC, 7 NC, 8 VREFP1 (in), 9 VREFN1 (in), 10 VIN6/VREFP2 (in), 11 VIN7/VREFN2 (in), 12 NC, 13 NC, 14 XOUT (out), 15 XIN/CLK (in), 16 GND (power), 17 CSB (in), 18 SCLK (in), 19 SDI (in), 20 SDO/DRDYB (out), 21 D0 (io), 22 D1 (io), 23 D2 (io), 24 D3 (io), 25 D4 (io), 26 D5 (io), 27 D6/DRDYB (io), 28 VIO (power), 29 EP (power)

## LMP90077MHX/NOPB
designator U?
Multi-Channel, Low-Power 16-Bit Sensor AFE with True Continuous Background Calibration, 2-DIFF/4-SE inputs, 28-pin TSSOP-EP, 2500 Reel; PartNumber: LMP90077MHX/NOPB; Manufacturer: National Semiconductor; PackageTopMarking: NSUZXYTTE#*LMP90077*MH; PowerWise: N; CompType: ADC IC; DatasheetVersion: Aug-2011; PackageVersion: revD, Oct-2003; PackageReference: MXA28A; PackageDescription: Molded TSSOP, Jedec, 9.7 x 4.4 x 0.9mm Body, 28 Lead, 0.65mm Pitch, Exposed Pad; RoHS: Y; PinCount: 28; Code_JEDEC: MO-153-AET; ComponentLink1Description: LMP90077 Datasheet; ComponentLink1URL: http://www.national.com/ds/LM/LMP90077.pdf; ComponentLink2Description: LMP90077 Web Page; ComponentLink2URL: http://www.national.com/pf/LM/LMP90077.html; ComponentLink3Description: MXA28A Package Page; ComponentLink3URL: http://www.national.com/packaging/folders/mxa28a.html
footprint MXA28A_N (TSOP, 28-Leads, Body 9.7x4.4mm, Pitch 0.65mm, Thermal Pad, IPC Medium Density)
footprint MXA28A_L (TSOP, 28-Leads, Body 9.7x4.4mm, Pitch 0.65mm, Thermal Pad, IPC High Density)
footprint MXA28A_M (TSOP, 28-Leads, Body 9.7x4.4mm, Pitch 0.65mm, Thermal Pad, IPC Low Density)
pins: 1 VA (power), 2 VIN0 (in), 3 VIN1 (in), 4 VIN2 (in), 5 NC, 6 NC, 7 NC, 8 VREFP1 (in), 9 VREFN1 (in), 10 VIN6/VREFP2 (in), 11 VIN7/VREFN2 (in), 12 NC, 13 NC, 14 XOUT (out), 15 XIN/CLK (in), 16 GND (power), 17 CSB (in), 18 SCLK (in), 19 SDI (in), 20 SDO/DRDYB (out), 21 D0 (io), 22 D1 (io), 23 D2 (io), 24 D3 (io), 25 D4 (io), 26 D5 (io), 27 D6/DRDYB (io), 28 VIO (power), 29 EP (power)

## LMP90078MH/NOPB
designator U?
Multi-Channel, Low-Power 16-Bit Sensor AFE with True Continuous Background Calibration, 2-DIFF/4-SE inputs, 28-pin TSSOP-EP, 48 Rail; PartNumber: LMP90078MH/NOPB; Manufacturer: National Semiconductor; PackageTopMarking: NSUZXYTTE#*LMP90078*MH; PowerWise: N; CompType: ADC IC; DatasheetVersion: Aug-2011; PackageVersion: revD, Oct-2003; PackageReference: MXA28A; PackageDescription: Molded TSSOP, Jedec, 9.7 x 4.4 x 0.9mm Body, 28 Lead, 0.65mm Pitch, Exposed Pad; RoHS: Y; PinCount: 28; Code_JEDEC: MO-153-AET; ComponentLink1Description: LMP90078 Datasheet; ComponentLink1URL: http://www.national.com/ds/LM/LMP90078.pdf; ComponentLink2Description: LMP90078 Web Page; ComponentLink2URL: http://www.national.com/pf/LM/LMP90078.html; ComponentLink3Description: MXA28A Package Page; ComponentLink3URL: http://www.national.com/packaging/folders/mxa28a.html
footprint MXA28A_N (TSOP, 28-Leads, Body 9.7x4.4mm, Pitch 0.65mm, Thermal Pad, IPC Medium Density)
footprint MXA28A_L (TSOP, 28-Leads, Body 9.7x4.4mm, Pitch 0.65mm, Thermal Pad, IPC High Density)
footprint MXA28A_M (TSOP, 28-Leads, Body 9.7x4.4mm, Pitch 0.65mm, Thermal Pad, IPC Low Density)
pins: 1 VA (power), 2 VIN0 (in), 3 VIN1 (in), 4 VIN2 (in), 5 NC, 6 NC, 7 NC, 8 VREFP1 (in), 9 VREFN1 (in), 10 VIN6/VREFP2 (in), 11 VIN7/VREFN2 (in), 12 IB2 (out), 13 IB1 (out), 14 XOUT (out), 15 XIN/CLK (in), 16 GND (power), 17 CSB (in), 18 SCLK (in), 19 SDI (in), 20 SDO/DRDYB (out), 21 D0 (io), 22 D1 (io), 23 D2 (io), 24 D3 (io), 25 D4 (io), 26 D5 (io), 27 D6/DRDYB (io), 28 VIO (power), 29 EP (power)

## LMP90078MHE/NOPB
designator U?
Multi-Channel, Low-Power 16-Bit Sensor AFE with True Continuous Background Calibration, 2-DIFF/4-SE inputs, 28-pin TSSOP-EP, 250 Reel; PartNumber: LMP90078MHE/NOPB; Manufacturer: National Semiconductor; PackageTopMarking: NSUZXYTTE#*LMP90078*MH; PowerWise: N; CompType: ADC IC; DatasheetVersion: Aug-2011; PackageVersion: revD, Oct-2003; PackageReference: MXA28A; PackageDescription: Molded TSSOP, Jedec, 9.7 x 4.4 x 0.9mm Body, 28 Lead, 0.65mm Pitch, Exposed Pad; RoHS: Y; PinCount: 28; Code_JEDEC: MO-153-AET; ComponentLink1Description: LMP90078 Datasheet; ComponentLink1URL: http://www.national.com/ds/LM/LMP90078.pdf; ComponentLink2Description: LMP90078 Web Page; ComponentLink2URL: http://www.national.com/pf/LM/LMP90078.html; ComponentLink3Description: MXA28A Package Page; ComponentLink3URL: http://www.national.com/packaging/folders/mxa28a.html
footprint MXA28A_N (TSOP, 28-Leads, Body 9.7x4.4mm, Pitch 0.65mm, Thermal Pad, IPC Medium Density)
footprint MXA28A_L (TSOP, 28-Leads, Body 9.7x4.4mm, Pitch 0.65mm, Thermal Pad, IPC High Density)
footprint MXA28A_M (TSOP, 28-Leads, Body 9.7x4.4mm, Pitch 0.65mm, Thermal Pad, IPC Low Density)
pins: 1 VA (power), 2 VIN0 (in), 3 VIN1 (in), 4 VIN2 (in), 5 NC, 6 NC, 7 NC, 8 VREFP1 (in), 9 VREFN1 (in), 10 VIN6/VREFP2 (in), 11 VIN7/VREFN2 (in), 12 IB2 (out), 13 IB1 (out), 14 XOUT (out), 15 XIN/CLK (in), 16 GND (power), 17 CSB (in), 18 SCLK (in), 19 SDI (in), 20 SDO/DRDYB (out), 21 D0 (io), 22 D1 (io), 23 D2 (io), 24 D3 (io), 25 D4 (io), 26 D5 (io), 27 D6/DRDYB (io), 28 VIO (power), 29 EP (power)

## LMP90078MHX/NOPB
designator U?
Multi-Channel, Low-Power 16-Bit Sensor AFE with True Continuous Background Calibration, 2-DIFF/4-SE inputs, 28-pin TSSOP-EP, 2500 Reel; PartNumber: LMP90078MHX/NOPB; Manufacturer: National Semiconductor; PackageTopMarking: NSUZXYTTE#*LMP90078*MH; PowerWise: N; CompType: ADC IC; DatasheetVersion: Aug-2011; PackageVersion: revD, Oct-2003; PackageReference: MXA28A; PackageDescription: Molded TSSOP, Jedec, 9.7 x 4.4 x 0.9mm Body, 28 Lead, 0.65mm Pitch, Exposed Pad; RoHS: Y; PinCount: 28; Code_JEDEC: MO-153-AET; ComponentLink1Description: LMP90078 Datasheet; ComponentLink1URL: http://www.national.com/ds/LM/LMP90078.pdf; ComponentLink2Description: LMP90078 Web Page; ComponentLink2URL: http://www.national.com/pf/LM/LMP90078.html; ComponentLink3Description: MXA28A Package Page; ComponentLink3URL: http://www.national.com/packaging/folders/mxa28a.html
footprint MXA28A_N (TSOP, 28-Leads, Body 9.7x4.4mm, Pitch 0.65mm, Thermal Pad, IPC Medium Density)
footprint MXA28A_L (TSOP, 28-Leads, Body 9.7x4.4mm, Pitch 0.65mm, Thermal Pad, IPC High Density)
footprint MXA28A_M (TSOP, 28-Leads, Body 9.7x4.4mm, Pitch 0.65mm, Thermal Pad, IPC Low Density)
pins: 1 VA (power), 2 VIN0 (in), 3 VIN1 (in), 4 VIN2 (in), 5 NC, 6 NC, 7 NC, 8 VREFP1 (in), 9 VREFN1 (in), 10 VIN6/VREFP2 (in), 11 VIN7/VREFN2 (in), 12 IB2 (out), 13 IB1 (out), 14 XOUT (out), 15 XIN/CLK (in), 16 GND (power), 17 CSB (in), 18 SCLK (in), 19 SDI (in), 20 SDO/DRDYB (out), 21 D0 (io), 22 D1 (io), 23 D2 (io), 24 D3 (io), 25 D4 (io), 26 D5 (io), 27 D6/DRDYB (io), 28 VIO (power), 29 EP (power)

## LMP90079MH/NOPB
designator U?
Multi-Channel, Low-Power 16-Bit Sensor AFE with True Continuous Background Calibration, 4-DIFF/7-SE inputs, 28-pin TSSOP-EP, 48 Rail; PartNumber: LMP90079MH/NOPB; Manufacturer: National Semiconductor; PackageTopMarking: NSUZXYTTE#*LMP90079*MH; PowerWise: N; CompType: ADC IC; DatasheetVersion: Aug-2011; PackageVersion: revD, Oct-2003; PackageReference: MXA28A; PackageDescription: Molded TSSOP, Jedec, 9.7 x 4.4 x 0.9mm Body, 28 Lead, 0.65mm Pitch, Exposed Pad; RoHS: Y; PinCount: 28; Code_JEDEC: MO-153-AET; ComponentLink1Description: LMP90079 Datasheet; ComponentLink1URL: http://www.national.com/ds/LM/LMP90079.pdf; ComponentLink2Description: LMP90079 Web Page; ComponentLink2URL: http://www.national.com/pf/LM/LMP90079.html; ComponentLink3Description: MXA28A Package Page; ComponentLink3URL: http://www.national.com/packaging/folders/mxa28a.html
footprint MXA28A_N (TSOP, 28-Leads, Body 9.7x4.4mm, Pitch 0.65mm, Thermal Pad, IPC Medium Density)
footprint MXA28A_L (TSOP, 28-Leads, Body 9.7x4.4mm, Pitch 0.65mm, Thermal Pad, IPC High Density)
footprint MXA28A_M (TSOP, 28-Leads, Body 9.7x4.4mm, Pitch 0.65mm, Thermal Pad, IPC Low Density)
pins: 1 VA (power), 2 VIN0 (in), 3 VIN1 (in), 4 VIN2 (in), 5 VIN3 (in), 6 VIN4 (in), 7 VIN5 (in), 8 VREFP1 (in), 9 VREFN1 (in), 10 VIN6/VREFP2 (in), 11 VIN7/VREFN2 (in), 12 NC, 13 NC, 14 XOUT (out), 15 XIN/CLK (in), 16 GND (power), 17 CSB (in), 18 SCLK (in), 19 SDI (in), 20 SDO/DRDYB (out), 21 D0 (io), 22 D1 (io), 23 D2 (io), 24 D3 (io), 25 D4 (io), 26 D5 (io), 27 D6/DRDYB (io), 28 VIO (power), 29 EP (power)

## LMP90079MHE/NOPB
designator U?
Multi-Channel, Low-Power 16-Bit Sensor AFE with True Continuous Background Calibration, 4-DIFF/7-SE inputs, 28-pin TSSOP-EP, 250 Reel; PartNumber: LMP90079MHE/NOPB; Manufacturer: National Semiconductor; PackageTopMarking: NSUZXYTTE#*LMP90079*MH; PowerWise: N; CompType: ADC IC; DatasheetVersion: Aug-2011; PackageVersion: revD, Oct-2003; PackageReference: MXA28A; PackageDescription: Molded TSSOP, Jedec, 9.7 x 4.4 x 0.9mm Body, 28 Lead, 0.65mm Pitch, Exposed Pad; RoHS: Y; PinCount: 28; Code_JEDEC: MO-153-AET; ComponentLink1Description: LMP90079 Datasheet; ComponentLink1URL: http://www.national.com/ds/LM/LMP90079.pdf; ComponentLink2Description: LMP90079 Web Page; ComponentLink2URL: http://www.national.com/pf/LM/LMP90079.html; ComponentLink3Description: MXA28A Package Page; ComponentLink3URL: http://www.national.com/packaging/folders/mxa28a.html
footprint MXA28A_N (TSOP, 28-Leads, Body 9.7x4.4mm, Pitch 0.65mm, Thermal Pad, IPC Medium Density)
footprint MXA28A_L (TSOP, 28-Leads, Body 9.7x4.4mm, Pitch 0.65mm, Thermal Pad, IPC High Density)
footprint MXA28A_M (TSOP, 28-Leads, Body 9.7x4.4mm, Pitch 0.65mm, Thermal Pad, IPC Low Density)
pins: 1 VA (power), 2 VIN0 (in), 3 VIN1 (in), 4 VIN2 (in), 5 VIN3 (in), 6 VIN4 (in), 7 VIN5 (in), 8 VREFP1 (in), 9 VREFN1 (in), 10 VIN6/VREFP2 (in), 11 VIN7/VREFN2 (in), 12 NC, 13 NC, 14 XOUT (out), 15 XIN/CLK (in), 16 GND (power), 17 CSB (in), 18 SCLK (in), 19 SDI (in), 20 SDO/DRDYB (out), 21 D0 (io), 22 D1 (io), 23 D2 (io), 24 D3 (io), 25 D4 (io), 26 D5 (io), 27 D6/DRDYB (io), 28 VIO (power), 29 EP (power)

## LMP90079MHX/NOPB
designator U?
Multi-Channel, Low-Power 16-Bit Sensor AFE with True Continuous Background Calibration, 4-DIFF/7-SE inputs, 28-pin TSSOP-EP, 2500 Reel; PartNumber: LMP90079MHX/NOPB; Manufacturer: National Semiconductor; PackageTopMarking: NSUZXYTTE#*LMP90079*MH; PowerWise: N; CompType: ADC IC; DatasheetVersion: Aug-2011; PackageVersion: revD, Oct-2003; PackageReference: MXA28A; PackageDescription: Molded TSSOP, Jedec, 9.7 x 4.4 x 0.9mm Body, 28 Lead, 0.65mm Pitch, Exposed Pad; RoHS: Y; PinCount: 28; Code_JEDEC: MO-153-AET; ComponentLink1Description: LMP90079 Datasheet; ComponentLink1URL: http://www.national.com/ds/LM/LMP90079.pdf; ComponentLink2Description: LMP90079 Web Page; ComponentLink2URL: http://www.national.com/pf/LM/LMP90079.html; ComponentLink3Description: MXA28A Package Page; ComponentLink3URL: http://www.national.com/packaging/folders/mxa28a.html
footprint MXA28A_N (TSOP, 28-Leads, Body 9.7x4.4mm, Pitch 0.65mm, Thermal Pad, IPC Medium Density)
footprint MXA28A_L (TSOP, 28-Leads, Body 9.7x4.4mm, Pitch 0.65mm, Thermal Pad, IPC High Density)
footprint MXA28A_M (TSOP, 28-Leads, Body 9.7x4.4mm, Pitch 0.65mm, Thermal Pad, IPC Low Density)
pins: 1 VA (power), 2 VIN0 (in), 3 VIN1 (in), 4 VIN2 (in), 5 VIN3 (in), 6 VIN4 (in), 7 VIN5 (in), 8 VREFP1 (in), 9 VREFN1 (in), 10 VIN6/VREFP2 (in), 11 VIN7/VREFN2 (in), 12 NC, 13 NC, 14 XOUT (out), 15 XIN/CLK (in), 16 GND (power), 17 CSB (in), 18 SCLK (in), 19 SDI (in), 20 SDO/DRDYB (out), 21 D0 (io), 22 D1 (io), 23 D2 (io), 24 D3 (io), 25 D4 (io), 26 D5 (io), 27 D6/DRDYB (io), 28 VIO (power), 29 EP (power)

## LMP90080MH/NOPB
designator U?
Multi-Channel, Low Power 16-Bit Sensor AFE with True Continuous Background Calibration, 4-DIFF/7-SE inputs, 28-pin TSSOP-EP, 48 Rail; PartNumber: LMP90080MH/NOPB; Manufacturer: National Semiconductor; PackageTopMarking: NSUZXYTTE#*LMP90080*MH; PowerWise: N; CompType: ADC IC; DatasheetVersion: Aug-2011; PackageVersion: revD, Oct-2003; PackageReference: MXA28A; PackageDescription: Molded TSSOP, Jedec, 9.7 x 4.4 x 0.9mm Body, 28 Lead, 0.65mm Pitch, Exposed Pad; RoHS: Y; PinCount: 28; Code_JEDEC: MO-153-AET; ComponentLink1Description: LMP90080 Datasheet; ComponentLink1URL: http://www.national.com/ds/LM/LMP90080.pdf; ComponentLink2Description: LMP90080 Web Page; ComponentLink2URL: http://www.national.com/pf/LM/LMP90080.html; ComponentLink3Description: MXA28A Package Page; ComponentLink3URL: http://www.national.com/packaging/folders/mxa28a.html
footprint MXA28A_N (TSOP, 28-Leads, Body 9.7x4.4mm, Pitch 0.65mm, Thermal Pad, IPC Medium Density)
footprint MXA28A_L (TSOP, 28-Leads, Body 9.7x4.4mm, Pitch 0.65mm, Thermal Pad, IPC High Density)
footprint MXA28A_M (TSOP, 28-Leads, Body 9.7x4.4mm, Pitch 0.65mm, Thermal Pad, IPC Low Density)
pins: 1 VA (power), 2 VIN0 (in), 3 VIN1 (in), 4 VIN2 (in), 5 VIN3 (in), 6 VIN4 (in), 7 VIN5 (in), 8 VREFP1 (in), 9 VREFN1 (in), 10 VIN6/VREFP2 (in), 11 VIN7/VREFN2 (in), 12 IB2 (out), 13 IB1 (out), 14 XOUT (out), 15 XIN/CLK (in), 16 GND (power), 17 CSB (in), 18 SCLK (in), 19 SDI (in), 20 SDO/DRDYB (out), 21 D0 (io), 22 D1 (io), 23 D2 (io), 24 D3 (io), 25 D4 (io), 26 D5 (io), 27 D6/DRDYB (io), 28 VIO (power), 29 EP (power)

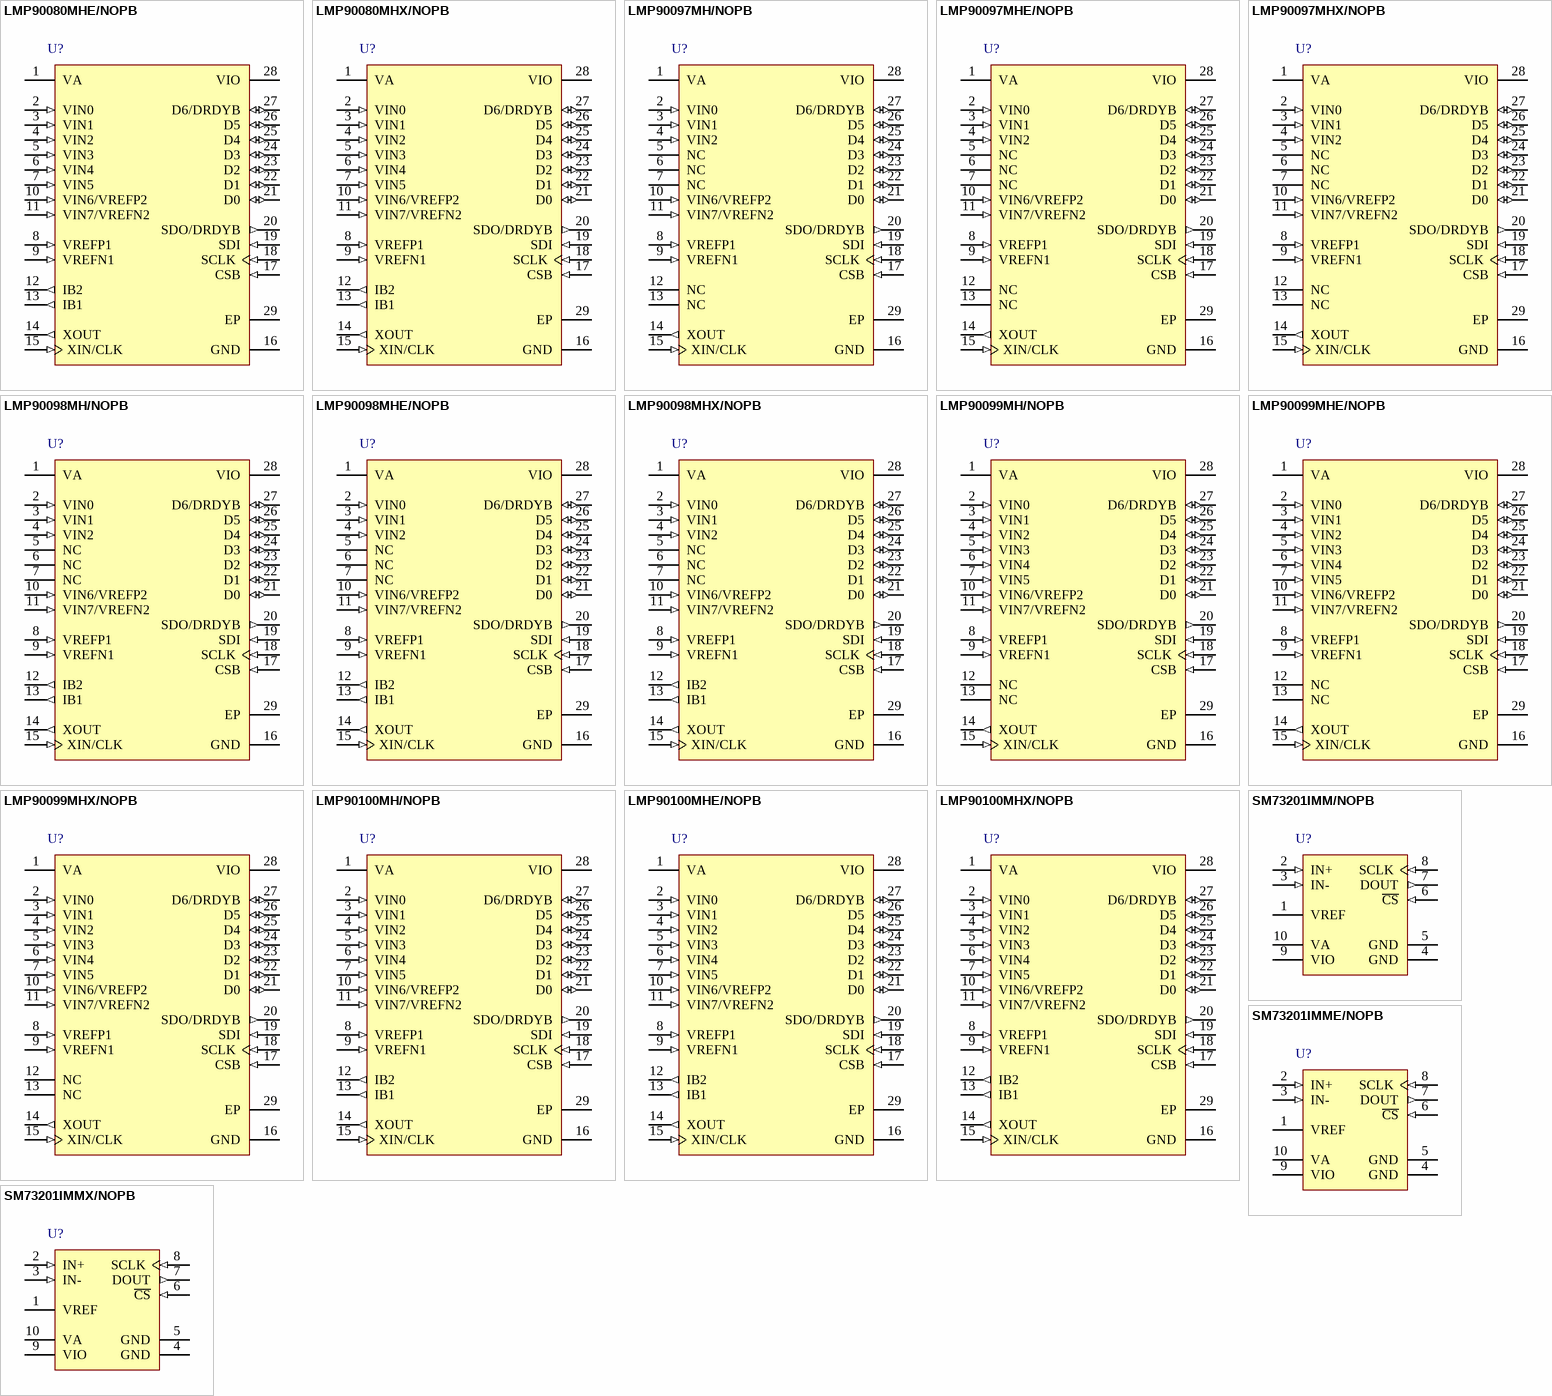
[diagram p45: symbols LMP90080MHE/NOPB to SM73201IMMX/NOPB]

## LMP90080MHE/NOPB
designator U?
Multi-Channel, Low Power 16-Bit Sensor AFE with True Continuous Background Calibration, 4-DIFF/7-SE inputs, 28-pin TSSOP-EP, 250 Reel; PartNumber: LMP90080MHE/NOPB; Manufacturer: National Semiconductor; PackageTopMarking: NSUZXYTTE#*LMP90080*MH; PowerWise: N; CompType: ADC IC; DatasheetVersion: Aug-2011; PackageVersion: revD, Oct-2003; PackageReference: MXA28A; PackageDescription: Molded TSSOP, Jedec, 9.7 x 4.4 x 0.9mm Body, 28 Lead, 0.65mm Pitch, Exposed Pad; RoHS: Y; PinCount: 28; Code_JEDEC: MO-153-AET; ComponentLink1Description: LMP90080 Datasheet; ComponentLink1URL: http://www.national.com/ds/LM/LMP90080.pdf; ComponentLink2Description: LMP90080 Web Page; ComponentLink2URL: http://www.national.com/pf/LM/LMP90080.html; ComponentLink3Description: MXA28A Package Page; ComponentLink3URL: http://www.national.com/packaging/folders/mxa28a.html
footprint MXA28A_N (TSOP, 28-Leads, Body 9.7x4.4mm, Pitch 0.65mm, Thermal Pad, IPC Medium Density)
footprint MXA28A_L (TSOP, 28-Leads, Body 9.7x4.4mm, Pitch 0.65mm, Thermal Pad, IPC High Density)
footprint MXA28A_M (TSOP, 28-Leads, Body 9.7x4.4mm, Pitch 0.65mm, Thermal Pad, IPC Low Density)
pins: 1 VA (power), 2 VIN0 (in), 3 VIN1 (in), 4 VIN2 (in), 5 VIN3 (in), 6 VIN4 (in), 7 VIN5 (in), 8 VREFP1 (in), 9 VREFN1 (in), 10 VIN6/VREFP2 (in), 11 VIN7/VREFN2 (in), 12 IB2 (out), 13 IB1 (out), 14 XOUT (out), 15 XIN/CLK (in), 16 GND (power), 17 CSB (in), 18 SCLK (in), 19 SDI (in), 20 SDO/DRDYB (out), 21 D0 (io), 22 D1 (io), 23 D2 (io), 24 D3 (io), 25 D4 (io), 26 D5 (io), 27 D6/DRDYB (io), 28 VIO (power), 29 EP (power)

## LMP90080MHX/NOPB
designator U?
Multi-Channel, Low Power 16-Bit Sensor AFE with True Continuous Background Calibration, 4-DIFF/7-SE inputs, 28-pin TSSOP-EP, 2500 Reel; PartNumber: LMP90080MHX/NOPB; Manufacturer: National Semiconductor; PackageTopMarking: NSUZXYTTE#*LMP90080*MH; PowerWise: N; CompType: ADC IC; DatasheetVersion: Aug-2011; PackageVersion: revD, Oct-2003; PackageReference: MXA28A; PackageDescription: Molded TSSOP, Jedec, 9.7 x 4.4 x 0.9mm Body, 28 Lead, 0.65mm Pitch, Exposed Pad; RoHS: Y; PinCount: 28; Code_JEDEC: MO-153-AET; ComponentLink1Description: LMP90080 Datasheet; ComponentLink1URL: http://www.national.com/ds/LM/LMP90080.pdf; ComponentLink2Description: LMP90080 Web Page; ComponentLink2URL: http://www.national.com/pf/LM/LMP90080.html; ComponentLink3Description: MXA28A Package Page; ComponentLink3URL: http://www.national.com/packaging/folders/mxa28a.html
footprint MXA28A_N (TSOP, 28-Leads, Body 9.7x4.4mm, Pitch 0.65mm, Thermal Pad, IPC Medium Density)
footprint MXA28A_L (TSOP, 28-Leads, Body 9.7x4.4mm, Pitch 0.65mm, Thermal Pad, IPC High Density)
footprint MXA28A_M (TSOP, 28-Leads, Body 9.7x4.4mm, Pitch 0.65mm, Thermal Pad, IPC Low Density)
pins: 1 VA (power), 2 VIN0 (in), 3 VIN1 (in), 4 VIN2 (in), 5 VIN3 (in), 6 VIN4 (in), 7 VIN5 (in), 8 VREFP1 (in), 9 VREFN1 (in), 10 VIN6/VREFP2 (in), 11 VIN7/VREFN2 (in), 12 IB2 (out), 13 IB1 (out), 14 XOUT (out), 15 XIN/CLK (in), 16 GND (power), 17 CSB (in), 18 SCLK (in), 19 SDI (in), 20 SDO/DRDYB (out), 21 D0 (io), 22 D1 (io), 23 D2 (io), 24 D3 (io), 25 D4 (io), 26 D5 (io), 27 D6/DRDYB (io), 28 VIO (power), 29 EP (power)

## LMP90097MH/NOPB
designator U?
Multi-Channel, Low Power 24-Bit Sensor AFE with True Continuous Background Calibration, 2-DIFF/4-SE inputs, 28-pin TSSOP-EP, 48 Rail; PartNumber: LMP90097MH/NOPB; Manufacturer: National Semiconductor; PackageTopMarking: NSUZXYTTE#*LMP90097*MH; PowerWise: N; CompType: ADC IC; DatasheetVersion: Jul-2011; PackageVersion: revD, Oct-2003; PackageReference: MXA28A; PackageDescription: Molded TSSOP, Jedec, 9.7 x 4.4 x 0.9mm Body, 28 Lead, 0.65mm Pitch, Exposed Pad; RoHS: Y; PinCount: 28; Code_JEDEC: MO-153-AET; ComponentLink1Description: LMP90097 Datasheet; ComponentLink1URL: http://www.national.com/ds/LM/LMP90097.pdf; ComponentLink2Description: LMP90097 Web Page; ComponentLink2URL: http://www.national.com/pf/LM/LMP90097.html; ComponentLink3Description: MXA28A Package Page; ComponentLink3URL: http://www.national.com/packaging/folders/mxa28a.html
footprint MXA28A_N (TSOP, 28-Leads, Body 9.7x4.4mm, Pitch 0.65mm, Thermal Pad, IPC Medium Density)
footprint MXA28A_L (TSOP, 28-Leads, Body 9.7x4.4mm, Pitch 0.65mm, Thermal Pad, IPC High Density)
footprint MXA28A_M (TSOP, 28-Leads, Body 9.7x4.4mm, Pitch 0.65mm, Thermal Pad, IPC Low Density)
pins: 1 VA (power), 2 VIN0 (in), 3 VIN1 (in), 4 VIN2 (in), 5 NC, 6 NC, 7 NC, 8 VREFP1 (in), 9 VREFN1 (in), 10 VIN6/VREFP2 (in), 11 VIN7/VREFN2 (in), 12 NC, 13 NC, 14 XOUT (out), 15 XIN/CLK (in), 16 GND (power), 17 CSB (in), 18 SCLK (in), 19 SDI (in), 20 SDO/DRDYB (out), 21 D0 (io), 22 D1 (io), 23 D2 (io), 24 D3 (io), 25 D4 (io), 26 D5 (io), 27 D6/DRDYB (io), 28 VIO (power), 29 EP (power)

## LMP90097MHE/NOPB
designator U?
Multi-Channel, Low Power 24-Bit Sensor AFE with True Continuous Background Calibration, 2-DIFF/4-SE inputs, 28-pin TSSOP-EP, 250 Reel; PartNumber: LMP90097MHE/NOPB; Manufacturer: National Semiconductor; PackageTopMarking: NSUZXYTTE#*LMP90097*MH; PowerWise: N; CompType: ADC IC; DatasheetVersion: Jul-2011; PackageVersion: revD, Oct-2003; PackageReference: MXA28A; PackageDescription: Molded TSSOP, Jedec, 9.7 x 4.4 x 0.9mm Body, 28 Lead, 0.65mm Pitch, Exposed Pad; RoHS: Y; PinCount: 28; Code_JEDEC: MO-153-AET; ComponentLink1Description: LMP90097 Datasheet; ComponentLink1URL: http://www.national.com/ds/LM/LMP90097.pdf; ComponentLink2Description: LMP90097 Web Page; ComponentLink2URL: http://www.national.com/pf/LM/LMP90097.html; ComponentLink3Description: MXA28A Package Page; ComponentLink3URL: http://www.national.com/packaging/folders/mxa28a.html
footprint MXA28A_N (TSOP, 28-Leads, Body 9.7x4.4mm, Pitch 0.65mm, Thermal Pad, IPC Medium Density)
footprint MXA28A_L (TSOP, 28-Leads, Body 9.7x4.4mm, Pitch 0.65mm, Thermal Pad, IPC High Density)
footprint MXA28A_M (TSOP, 28-Leads, Body 9.7x4.4mm, Pitch 0.65mm, Thermal Pad, IPC Low Density)
pins: 1 VA (power), 2 VIN0 (in), 3 VIN1 (in), 4 VIN2 (in), 5 NC, 6 NC, 7 NC, 8 VREFP1 (in), 9 VREFN1 (in), 10 VIN6/VREFP2 (in), 11 VIN7/VREFN2 (in), 12 NC, 13 NC, 14 XOUT (out), 15 XIN/CLK (in), 16 GND (power), 17 CSB (in), 18 SCLK (in), 19 SDI (in), 20 SDO/DRDYB (out), 21 D0 (io), 22 D1 (io), 23 D2 (io), 24 D3 (io), 25 D4 (io), 26 D5 (io), 27 D6/DRDYB (io), 28 VIO (power), 29 EP (power)